# EAGLE library part CY7C1059DV33 (library memory-sram)
Source: CYPRESS cy7c1059dv33_8.pdf
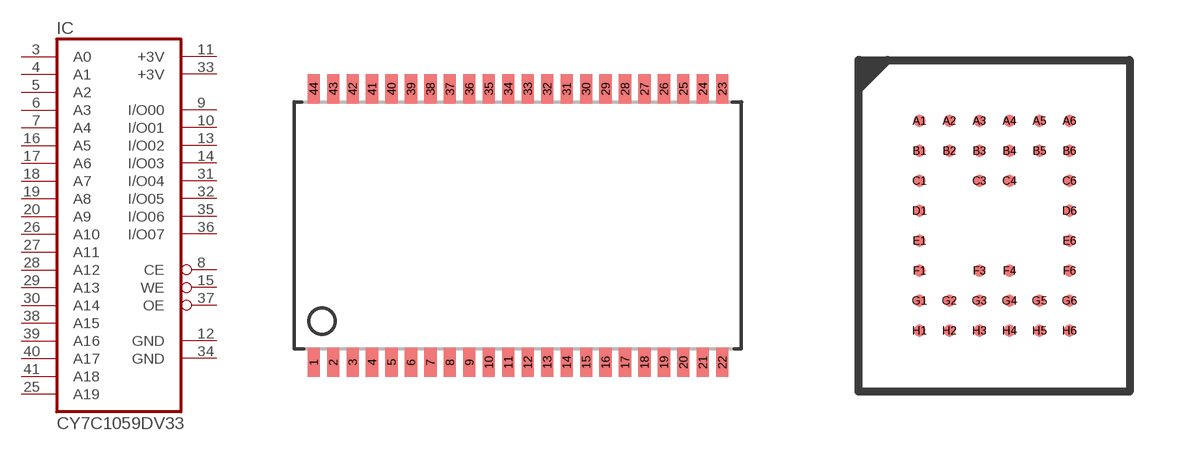
[diagram p16: symbol with the pads of TSOPII-Z44; footprints TSOPII-Z44, FBGA36]

Designator prefix IC

## CY7C1059DV33-10ZSXI  [TSOPII-Z44]
3  A0  in
4  A1  in
5  A2  in
6  A3  in
7  A4  in
8  CE  in
9  I/O00
10  I/O01
11  +3V  pwr
12  GND  pwr
13  I/O02
14  I/O03
15  WE  in
16  A5  in
17  A6  in
18  A7  in
19  A8  in
20  A9  in
25  A19  in
26  A10  in
27  A11  in
28  A12  in
29  A13  in
30  A14  in
31  I/O04
32  I/O05
33  +3V  pwr
34  GND  pwr
35  I/O06
36  I/O07
37  OE  in
38  A15  in
39  A16  in
40  A17  in
41  A18  in

## CY7C1059DV33-10BAXI  [FBGA36]
A1  A0  in
A2  A1  in
A4  A3  in
A5  A6  in
A6  A8  in
B1  I/O04
B2  A2  in
B3  WE  in
B4  A4  in
B5  A7  in
B6  I/O00
C1  I/O05
C3  A19  in
C4  A5  in
C6  I/O01
D1  GND  pwr
D6  +3V  pwr
E1  +3V  pwr
E6  GND  pwr
F1  I/O06
F3  A18  in
F4  A17  in
F6  I/O02
G1  I/O07
G2  OE  in
G3  CE  in
G4  A16  in
G5  A15  in
G6  I/O03
H1  A9  in
H2  A10  in
H3  A11  in
H4  A12  in
H5  A13  in
H6  A14  in

## Footprint TSOPII-Z44 (pad centres in mm)
44 PIN TSOP II Z44 Source: CYPRESS cy7c1049cv33_8.pdf
smd 0.5 x 1.2: 1 -8.4,-5.627; 2 -7.6,-5.627; 3 -6.8,-5.627; 4 -6,-5.627; 5 -5.2,-5.627; 6 -4.4,-5.627; 7 -3.6,-5.627; 8 -2.8,-5.627; 9 -2,-5.627; 10 -1.2,-5.627; 11 -0.4,-5.627; 12 0.4,-5.627; 13 1.2,-5.627; 14 2,-5.627; 15 2.8,-5.627; 16 3.6,-5.627; 17 4.4,-5.627; 18 5.2,-5.627; 19 6,-5.627; 20 6.8,-5.627; 21 7.6,-5.627; 22 8.4,-5.627; 23 8.4,5.627; 24 7.6,5.627; 25 6.8,5.627; 26 6,5.627; 27 5.2,5.627; 28 4.4,5.627; 29 3.6,5.627; 30 2.8,5.627; 31 2,5.627; 32 1.2,5.627; 33 0.4,5.627; 34 -0.4,5.627; 35 -1.2,5.627; 36 -2,5.627; 37 -2.8,5.627; 38 -3.6,5.627; 39 -4.4,5.627; 40 -5.2,5.627; 41 -6,5.627; 42 -6.8,5.627; 43 -7.6,5.627; 44 -8.4,5.627

## Footprint FBGA36 (pad centres in mm)
36-Ball FBGA (7.00 mm x 8.5 mm x 1.2 mm) (51-85105) Source: CYPRESS cy7c1059dv33_8.pdf
smd 0.3 x 0.3: A1 -1.875,2.625; A2 -1.125,2.625; A3 -0.375,2.625; A4 0.375,2.625; A5 1.125,2.625; A6 1.875,2.625; B1 -1.875,1.875; B2 -1.125,1.875; B3 -0.375,1.875; B4 0.375,1.875; B5 1.125,1.875; B6 1.875,1.875; C1 -1.875,1.125; C3 -0.375,1.125; C4 0.375,1.125; C6 1.875,1.125; D1 -1.875,0.375; D6 1.875,0.375; E1 -1.875,-0.375; E6 1.875,-0.375; F1 -1.875,-1.125; F3 -0.375,-1.125; F4 0.375,-1.125; F6 1.875,-1.125; G1 -1.875,-1.875; G2 -1.125,-1.875; G3 -0.375,-1.875; G4 0.375,-1.875; G5 1.125,-1.875; G6 1.875,-1.875; H1 -1.875,-2.625; H2 -1.125,-2.625; H3 -0.375,-2.625; H4 0.375,-2.625; H5 1.125,-2.625; H6 1.875,-2.625